# Altium schematic symbol library kmilo17pet-TI_MSP430.SchLib: 1463 symbols (part 71 of 130)
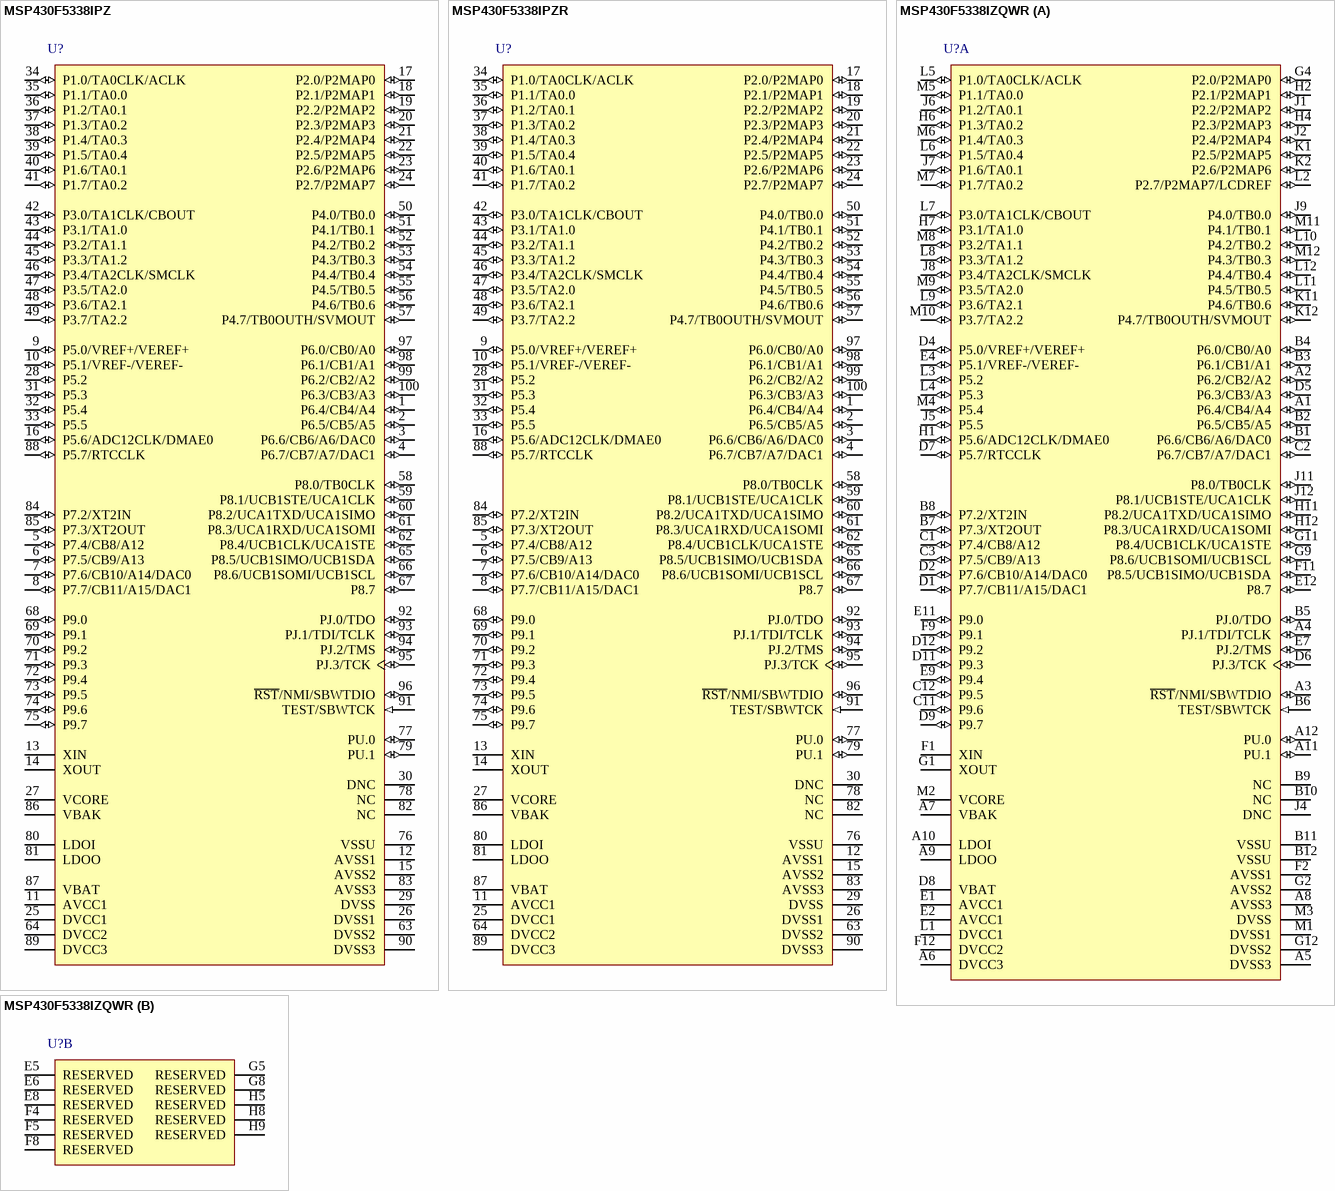
[diagram p271: symbols MSP430F5338IPZ to MSP430F5338IZQWR]

## MSP430F5338IZQWR
designator U?
20 MHz Mixed Signal Microcontroller with 256 KB Flash, 18432 B SRAM and 74 GPIOs, -40 to 85 degC, 113-pin BGA (ZQW), Green (RoHS & no Sb/Br); Manufacturer: Texas Instruments; PartNumber: MSP430F5338IZQWR; ADC: 12-bit SAR; ADC Channels: 16; Brown Out Reset: Yes; DAC: 2; DMA: 3; Flash(KB): 256; Frequency(MHz): 20; GPIO: 74; Multiplier: 32x32; SRAM(B): 18432; SubFamily: 5 Series; Timers - 16-bit: 4; DatasheetVersion: SLAS721B; PackageVersion: 4204599-3/D; PackageReference: ZQW113; PackageDescription: 113-Pin Plastic Ball Grid Array Package, Body 7 x 7 mm, Pitch 0.5 mm; Supplier 1: Digi-Key; Supplier Part Number 1: 296-29819-2-ND; Supplier 2: Digi-Key; Supplier Part Number 2: 296-29819-1-ND; Supplier 3: Digi-Key; Supplier Part Number 3: 296-29819-6-ND; Supplier 4: Newark; Supplier Part Number 4: 76T6231; Supplier 5: Mouser; Supplier Part Number 5: 595-MSP430F5338IPZR; Comparators: Yes; Eco-Plan: Green (RoHS & no Sb/Br); Real-Time Clock: Yes; SVS: Yes; Temp Sensor: Yes; USCI_A (UART/LIN/IrDA/SPI): 2; USCI_B (I2C & SPI): 2; Watchdog: Yes; Mounting Technology: Surface Mount; Code_JEDEC: MO-225; ComponentLink1Description: Manufacturer URL; ComponentLink1URL: http://www.ti.com/; ComponentLink2Description: Datasheet; ComponentLink2URL: http://www.ti.com/general/docs/lit/getliterature.tsp?genericPartNumber=MSP430F5338&fileType=pdf; ComponentLink3Description: Package Specification; ComponentLink3URL: http://www.ti.com/lit/ml/mpbg674/mpbg674.pdf
footprint TI-ZQW113 (BGA, 113-Balls, Body 7x7mm, Pitch 0.5mm)
part A pins: A1 P6.4/CB4/A4 (io), A2 P6.2/CB2/A2 (io), A3 ~{RST}/NMI/SBWTDIO (io), A4 PJ.1/TDI/TCLK (io), A5 DVSS3 (power) "Digital ground supply", A6 DVCC3 (power) "Digital power supply", A7 VBAK "Capacitor for backup subsystem. Do not load this pin externally. For capacitor values, see CBAK in Recommended Operating Conditions.", A8 AVSS3 (power) "Analog ground supply", A9 LDOO (power) "LDO output", A10 LDOI (power) "LDO input", A11 PU.1 (io) "General-purpose digital I/O - controlled by PU control register", A12 PU.0 (io) "General-purpose digital I/O - controlled by PU control register", B1 P6.6/CB6/A6/DAC0 (io), B2 P6.5/CB5/A5 (io), B3 P6.1/CB1/A1 (io), B4 P6.0/CB0/A0 (io), B5 PJ.0/TDO (io), B6 TEST/SBWTCK (in), B7 P7.3/XT2OUT (io), B8 P7.2/XT2IN (io), B9 NC "No connect.", B10 NC "No connect.", B11 VSSU (power) "PU ground supply", B12 VSSU (power) "PU ground supply", C1 P7.4/CB8/A12 (io), C2 P6.7/CB7/A7/DAC1 (io), C3 P7.5/CB9/A13 (io), C11 P9.6 (io) "General-purpose digital I/O", C12 P9.5 (io) "General-purpose digital I/O", D1 P7.7/CB11/A15/DAC1 (io), D2 P7.6/CB10/A14/DAC0 (io), D4 P5.0/VREF+/VEREF+ (io), D5 P6.3/CB3/A3 (io), D6 PJ.3/TCK (io), D7 P5.7/RTCCLK (io), D8 VBAT (power) "Backup or secondary supply voltage. If backup voltage is not supplied, connect to DVCC externally.", D9 P9.7 (io) "General-purpose digital I/O", D11 P9.3 (io) "General-purpose digital I/O", D12 P9.2 (io) "General-purpose digital I/O", E1 AVCC1 (power) "Analog power supply", E2 AVCC1 (power) "Analog power supply", E4 P5.1/VREF-/VEREF- (io), E7 PJ.2/TMS (io), E9 P9.4 (io) "General-purpose digital I/O", E11 P9.0 (io) "General-purpose digital I/O", E12 P8.7 (io) "General-purpose digital I/O", F1 XIN "Input terminal for crystal oscillator XT1", F2 AVSS1 (power) "Analog ground supply", F9 P9.1 (io) "General-purpose digital I/O", F11 P8.5/UCB1SIMO/UCB1SDA (io), F12 DVCC2 (power) "Digital power supply", G1 XOUT "Output terminal of crystal oscillator XT1", G2 AVSS2 (power) "Analog ground supply", G4 P2.0/P2MAP0 (io), G9 P8.6/UCB1SOMI/UCB1SCL (io), G11 P8.4/UCB1CLK/UCA1STE (io), G12 DVSS2 (power) "Digital ground supply", H1 P5.6/ADC12CLK/DMAE0 (io), H2 P2.1/P2MAP1 (io), H4 P2.3/P2MAP3 (io), H6 P1.3/TA0.2 (io), H7 P3.1/TA1.0 (io), H11 P8.2/UCA1TXD/UCA1SIMO (io), H12 P8.3/UCA1RXD/UCA1SOMI (io), J1 P2.2/P2MAP2 (io), J2 P2.4/P2MAP4 (io), J4 DNC "Do not connect. It is strongly recommended to leave this terminal open.", J5 P5.5 (io) "General-purpose digital I/O", J6 P1.2/TA0.1 (io), J7 P1.6/TA0.1 (io), J8 P3.4/TA2CLK/SMCLK (io), J9 P4.0/TB0.0 (io), J11 P8.0/TB0CLK (io), J12 P8.1/UCB1STE/UCA1CLK (io), K1 P2.5/P2MAP5 (io), K2 P2.6/P2MAP6 (io), K11 P4.6/TB0.6 (io), K12 P4.7/TB0OUTH/SVMOUT (io), L1 DVCC1 (power) "Digital power supply", L2 P2.7/P2MAP7/LCDREF (io), L3 P5.2 (io) "General-purpose digital I/O", L4 P5.3 (io) "General-purpose digital I/O", L5 P1.0/TA0CLK/ACLK (io), L6 P1.5/TA0.4 (io), L7 P3.0/TA1CLK/CBOUT (io), L8 P3.3/TA1.2 (io), L9 P3.6/TA2.1 (io), L10 P4.2/TB0.2 (io), L11 P4.5/TB0.5 (io), L12 P4.4/TB0.4 (io), M1 DVSS1 (power) "Digital ground supply", M2 VCORE "Regulated core power supply (internal use only, no external current loading)", M3 DVSS (power) "Digital ground supply", M4 P5.4 (io) "General-purpose digital I/O", M5 P1.1/TA0.0 (io), M6 P1.4/TA0.3 (io), M7 P1.7/TA0.2 (io), M8 P3.2/TA1.1 (io), M9 P3.5/TA2.0 (io), M10 P3.7/TA2.2 (io), M11 P4.1/TB0.1 (io), M12 P4.3/TB0.3 (io)
part B pins: E5 RESERVED "Reserved. It is recommended to connect to ground (DVSS, AVSS).", E6 RESERVED "Reserved. It is recommended to connect to ground (DVSS, AVSS).", E8 RESERVED "Reserved. It is recommended to connect to ground (DVSS, AVSS).", F4 RESERVED "Reserved. It is recommended to connect to ground (DVSS, AVSS).", F5 RESERVED "Reserved. It is recommended to connect to ground (DVSS, AVSS).", F8 RESERVED "Reserved. It is recommended to connect to ground (DVSS, AVSS).", G5 RESERVED "Reserved. It is recommended to connect to ground (DVSS, AVSS).", G8 RESERVED "Reserved. It is recommended to connect to ground (DVSS, AVSS).", H5 RESERVED "Reserved. It is recommended to connect to ground (DVSS, AVSS).", H8 RESERVED "Reserved. It is recommended to connect to ground (DVSS, AVSS).", H9 RESERVED "Reserved. It is recommended to connect to ground (DVSS, AVSS)."

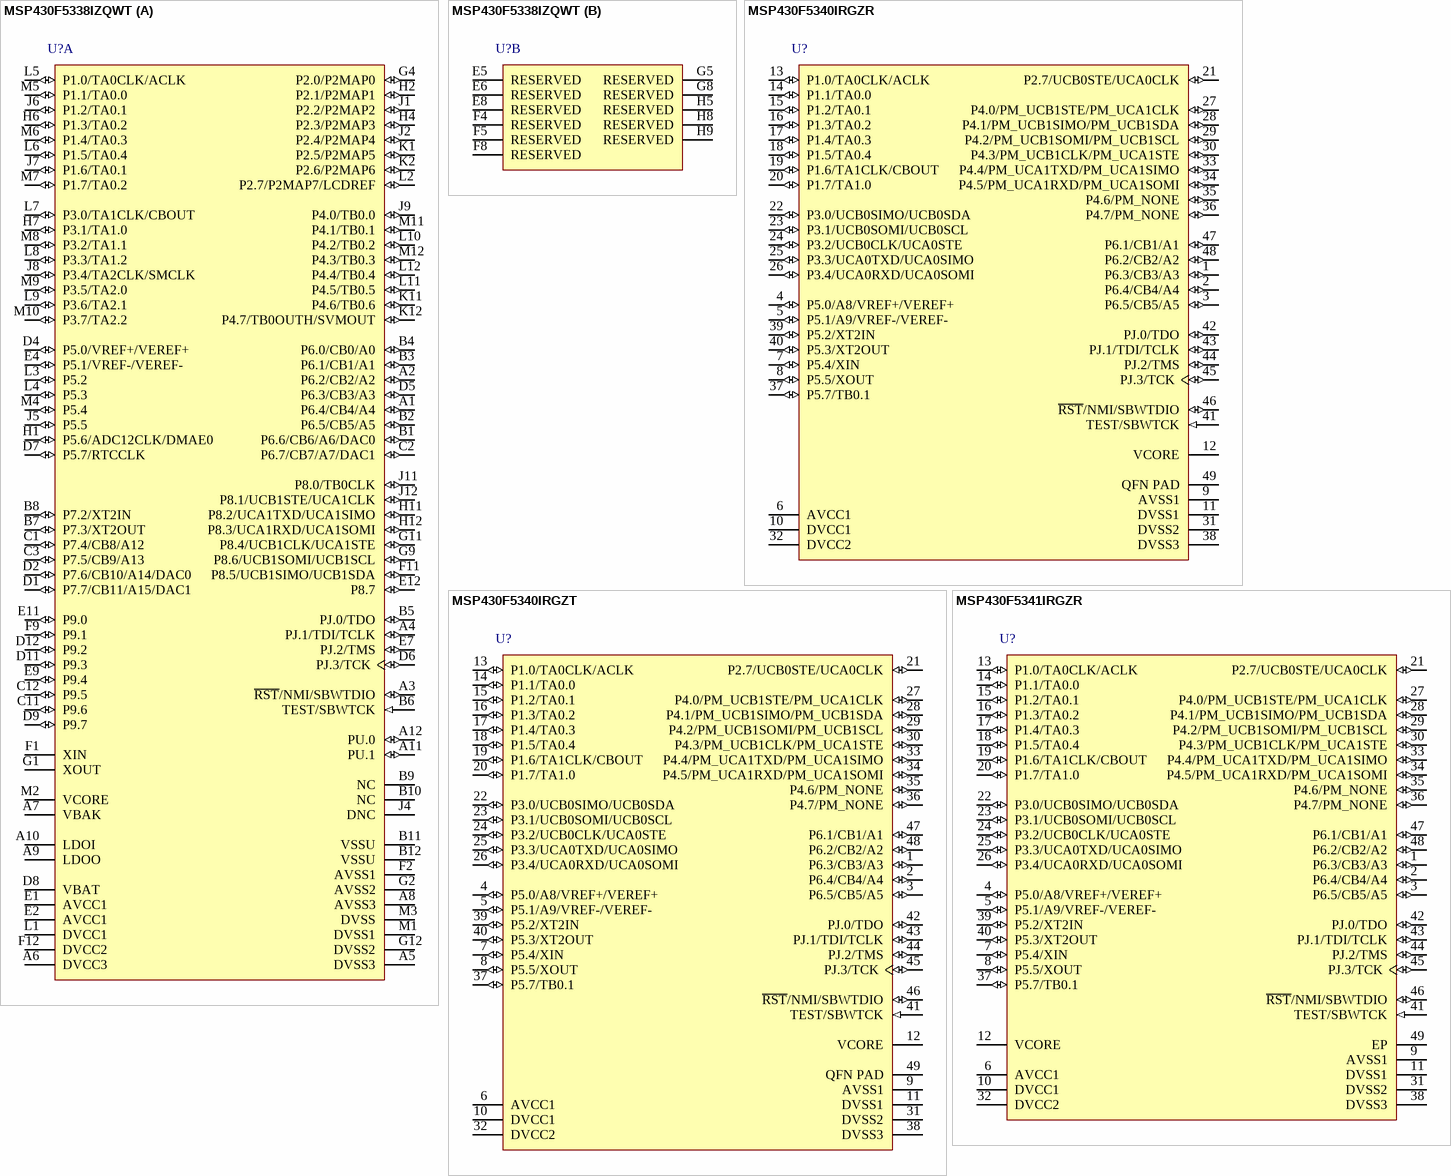
[diagram p107: symbols MSP430F5338IZQWT to MSP430F5341IRGZR]

## MSP430F5338IZQWT
designator U?
20 MHz Mixed Signal Microcontroller with 256 KB Flash, 18432 B SRAM and 74 GPIOs, -40 to 85 degC, 113-pin BGA (ZQW), Green (RoHS & no Sb/Br); Manufacturer: Texas Instruments; PartNumber: MSP430F5338IZQWT; ADC: 12-bit SAR; ADC Channels: 16; Brown Out Reset: Yes; DAC: 2; DMA: 3; Flash(KB): 256; Frequency(MHz): 20; GPIO: 74; Multiplier: 32x32; SRAM(B): 18432; SubFamily: 5 Series; Timers - 16-bit: 4; DatasheetVersion: SLAS721B; PackageVersion: 4204599-3/D; PackageReference: ZQW113; PackageDescription: 113-Pin Plastic Ball Grid Array Package, Body 7 x 7 mm, Pitch 0.5 mm; Supplier 1: Digi-Key; Supplier Part Number 1: 296-29820-2-ND; Supplier 2: Digi-Key; Supplier Part Number 2: 296-29820-1-ND; Supplier 3: Digi-Key; Supplier Part Number 3: 296-29820-6-ND; Supplier 4: Newark; Supplier Part Number 4: 76T6232; Supplier 5: Mouser; Supplier Part Number 5: 595-MSP430F5338IZQWR; Comparators: Yes; Eco-Plan: Green (RoHS & no Sb/Br); Real-Time Clock: Yes; SVS: Yes; Temp Sensor: Yes; USCI_A (UART/LIN/IrDA/SPI): 2; USCI_B (I2C & SPI): 2; Watchdog: Yes; Mounting Technology: Surface Mount; Code_JEDEC: MO-225; ComponentLink1Description: Manufacturer URL; ComponentLink1URL: http://www.ti.com/; ComponentLink2Description: Datasheet; ComponentLink2URL: http://www.ti.com/general/docs/lit/getliterature.tsp?genericPartNumber=MSP430F5338&fileType=pdf; ComponentLink3Description: Package Specification; ComponentLink3URL: http://www.ti.com/lit/ml/mpbg674/mpbg674.pdf
footprint TI-ZQW113 (BGA, 113-Balls, Body 7x7mm, Pitch 0.5mm)
part A pins: A1 P6.4/CB4/A4 (io), A2 P6.2/CB2/A2 (io), A3 ~{RST}/NMI/SBWTDIO (io), A4 PJ.1/TDI/TCLK (io), A5 DVSS3 (power) "Digital ground supply", A6 DVCC3 (power) "Digital power supply", A7 VBAK "Capacitor for backup subsystem. Do not load this pin externally. For capacitor values, see CBAK in Recommended Operating Conditions.", A8 AVSS3 (power) "Analog ground supply", A9 LDOO (power) "LDO output", A10 LDOI (power) "LDO input", A11 PU.1 (io) "General-purpose digital I/O - controlled by PU control register", A12 PU.0 (io) "General-purpose digital I/O - controlled by PU control register", B1 P6.6/CB6/A6/DAC0 (io), B2 P6.5/CB5/A5 (io), B3 P6.1/CB1/A1 (io), B4 P6.0/CB0/A0 (io), B5 PJ.0/TDO (io), B6 TEST/SBWTCK (in), B7 P7.3/XT2OUT (io), B8 P7.2/XT2IN (io), B9 NC "No connect.", B10 NC "No connect.", B11 VSSU (power) "PU ground supply", B12 VSSU (power) "PU ground supply", C1 P7.4/CB8/A12 (io), C2 P6.7/CB7/A7/DAC1 (io), C3 P7.5/CB9/A13 (io), C11 P9.6 (io) "General-purpose digital I/O", C12 P9.5 (io) "General-purpose digital I/O", D1 P7.7/CB11/A15/DAC1 (io), D2 P7.6/CB10/A14/DAC0 (io), D4 P5.0/VREF+/VEREF+ (io), D5 P6.3/CB3/A3 (io), D6 PJ.3/TCK (io), D7 P5.7/RTCCLK (io), D8 VBAT (power) "Backup or secondary supply voltage. If backup voltage is not supplied, connect to DVCC externally.", D9 P9.7 (io) "General-purpose digital I/O", D11 P9.3 (io) "General-purpose digital I/O", D12 P9.2 (io) "General-purpose digital I/O", E1 AVCC1 (power) "Analog power supply", E2 AVCC1 (power) "Analog power supply", E4 P5.1/VREF-/VEREF- (io), E7 PJ.2/TMS (io), E9 P9.4 (io) "General-purpose digital I/O", E11 P9.0 (io) "General-purpose digital I/O", E12 P8.7 (io) "General-purpose digital I/O", F1 XIN "Input terminal for crystal oscillator XT1", F2 AVSS1 (power) "Analog ground supply", F9 P9.1 (io) "General-purpose digital I/O", F11 P8.5/UCB1SIMO/UCB1SDA (io), F12 DVCC2 (power) "Digital power supply", G1 XOUT "Output terminal of crystal oscillator XT1", G2 AVSS2 (power) "Analog ground supply", G4 P2.0/P2MAP0 (io), G9 P8.6/UCB1SOMI/UCB1SCL (io), G11 P8.4/UCB1CLK/UCA1STE (io), G12 DVSS2 (power) "Digital ground supply", H1 P5.6/ADC12CLK/DMAE0 (io), H2 P2.1/P2MAP1 (io), H4 P2.3/P2MAP3 (io), H6 P1.3/TA0.2 (io), H7 P3.1/TA1.0 (io), H11 P8.2/UCA1TXD/UCA1SIMO (io), H12 P8.3/UCA1RXD/UCA1SOMI (io), J1 P2.2/P2MAP2 (io), J2 P2.4/P2MAP4 (io), J4 DNC "Do not connect. It is strongly recommended to leave this terminal open.", J5 P5.5 (io) "General-purpose digital I/O", J6 P1.2/TA0.1 (io), J7 P1.6/TA0.1 (io), J8 P3.4/TA2CLK/SMCLK (io), J9 P4.0/TB0.0 (io), J11 P8.0/TB0CLK (io), J12 P8.1/UCB1STE/UCA1CLK (io), K1 P2.5/P2MAP5 (io), K2 P2.6/P2MAP6 (io), K11 P4.6/TB0.6 (io), K12 P4.7/TB0OUTH/SVMOUT (io), L1 DVCC1 (power) "Digital power supply", L2 P2.7/P2MAP7/LCDREF (io), L3 P5.2 (io) "General-purpose digital I/O", L4 P5.3 (io) "General-purpose digital I/O", L5 P1.0/TA0CLK/ACLK (io), L6 P1.5/TA0.4 (io), L7 P3.0/TA1CLK/CBOUT (io), L8 P3.3/TA1.2 (io), L9 P3.6/TA2.1 (io), L10 P4.2/TB0.2 (io), L11 P4.5/TB0.5 (io), L12 P4.4/TB0.4 (io), M1 DVSS1 (power) "Digital ground supply", M2 VCORE "Regulated core power supply (internal use only, no external current loading)", M3 DVSS (power) "Digital ground supply", M4 P5.4 (io) "General-purpose digital I/O", M5 P1.1/TA0.0 (io), M6 P1.4/TA0.3 (io), M7 P1.7/TA0.2 (io), M8 P3.2/TA1.1 (io), M9 P3.5/TA2.0 (io), M10 P3.7/TA2.2 (io), M11 P4.1/TB0.1 (io), M12 P4.3/TB0.3 (io)
part B pins: E5 RESERVED "Reserved. It is recommended to connect to ground (DVSS, AVSS).", E6 RESERVED "Reserved. It is recommended to connect to ground (DVSS, AVSS).", E8 RESERVED "Reserved. It is recommended to connect to ground (DVSS, AVSS).", F4 RESERVED "Reserved. It is recommended to connect to ground (DVSS, AVSS).", F5 RESERVED "Reserved. It is recommended to connect to ground (DVSS, AVSS).", F8 RESERVED "Reserved. It is recommended to connect to ground (DVSS, AVSS).", G5 RESERVED "Reserved. It is recommended to connect to ground (DVSS, AVSS).", G8 RESERVED "Reserved. It is recommended to connect to ground (DVSS, AVSS).", H5 RESERVED "Reserved. It is recommended to connect to ground (DVSS, AVSS).", H8 RESERVED "Reserved. It is recommended to connect to ground (DVSS, AVSS).", H9 RESERVED "Reserved. It is recommended to connect to ground (DVSS, AVSS)."

## MSP430F5340IRGZR
designator U?
25 MHz Mixed Signal Microcontroller with 64 KB Flash, 6144 B SRAM and 31 GPIOs, -40 to 85 degC, 48-pin QFN (RGZ), Green (RoHS & no Sb/Br); Manufacturer: Texas Instruments; PartNumber: MSP430F5340IRGZR; ADC: 12-bit SAR; ADC Channels: 9; Brown Out Reset: Yes; DMA: 3; Flash(KB): 64; Frequency(MHz): 25; GPIO: 31; Multiplier: 32x32; SRAM(B): 6144; SubFamily: 5 Series; Timers - 16-bit: 4; USCI_A (UART/LIN/IrDA/SPI): 2; DatasheetVersion: SLAS706C; PackageVersion: 4204101/F; PackageReference: RGZ48-5150X5150TP; PackageDescription: 48-Pin Plastic Flat Pack, Body 7 x 7 mm, Pitch 0.5 mm; Supplier 1: Mouser; Supplier Part Number 1: N/A; Comparators: Yes; Eco-Plan: Green (RoHS & no Sb/Br); Real-Time Clock: Yes; SVS: Yes; Temp Sensor: Yes; USCI_B (I2C & SPI): 2; Watchdog: Yes; Mounting Technology: Surface Mount; Code_JEDEC: MO-220; ComponentLink1Description: Manufacturer URL; ComponentLink1URL: http://www.ti.com/; ComponentLink2Description: Datasheet; ComponentLink2URL: http://www.ti.com/general/docs/lit/getliterature.tsp?genericPartNumber=MSP430F5340&fileType=pdf; ComponentLink3Description: Package Specification; ComponentLink3URL: http://www.ti.com/lit/ml/mpqf123e/mpqf123e.pdf
footprint TI-RGZ48-5150X5150TP_N (QFN, 48-Leads, Body 7x7mm, Pitch 0.5mm, Thermal Pad 5.15X5.15mm, IPC Medium Density)
pins: 1 P6.3/CB3/A3 (io), 2 P6.4/CB4/A4 (io), 3 P6.5/CB5/A5 (io), 4 P5.0/A8/VREF+/VEREF+ (io), 5 P5.1/A9/VREF-/VEREF- (io), 6 AVCC1 (power) "Analog power supply", 7 P5.4/XIN (io), 8 P5.5/XOUT (io), 9 AVSS1 (power) "Analog ground supply", 10 DVCC1 (power) "Digital power supply", 11 DVSS1 (power) "Digital ground supply", 12 VCORE "Regulated core power supply output (internal usage only, no external current loading)", 13 P1.0/TA0CLK/ACLK (io), 14 P1.1/TA0.0 (io), 15 P1.2/TA0.1 (io), 16 P1.3/TA0.2 (io), 17 P1.4/TA0.3 (io), 18 P1.5/TA0.4 (io), 19 P1.6/TA1CLK/CBOUT (io), 20 P1.7/TA1.0 (io), 21 P2.7/UCB0STE/UCA0CLK (io), 22 P3.0/UCB0SIMO/UCB0SDA (io), 23 P3.1/UCB0SOMI/UCB0SCL (io), 24 P3.2/UCB0CLK/UCA0STE (io), 25 P3.3/UCA0TXD/UCA0SIMO (io), 26 P3.4/UCA0RXD/UCA0SOMI (io), 27 P4.0/PM_UCB1STE/PM_UCA1CLK (io), 28 P4.1/PM_UCB1SIMO/PM_UCB1SDA (io), 29 P4.2/PM_UCB1SOMI/PM_UCB1SCL (io), 30 P4.3/PM_UCB1CLK/PM_UCA1STE (io), 31 DVSS2 (power) "Digital ground supply", 32 DVCC2 (power) "Digital power supply", 33 P4.4/PM_UCA1TXD/PM_UCA1SIMO (io), 34 P4.5/PM_UCA1RXD/PM_UCA1SOMI (io), 35 P4.6/PM_NONE (io), 36 P4.7/PM_NONE (io), 37 P5.7/TB0.1 (io), 38 DVSS3 (power) "Digital ground supply", 39 P5.2/XT2IN (io), 40 P5.3/XT2OUT (io), 41 TEST/SBWTCK (in), 42 PJ.0/TDO (io), 43 PJ.1/TDI/TCLK (io), 44 PJ.2/TMS (io), 45 PJ.3/TCK (io), 46 ~{RST}/NMI/SBWTDIO (io), 47 P6.1/CB1/A1 (io), 48 P6.2/CB2/A2 (io), 49 QFN PAD (power) "QFN package pad. Connection to VSS is recommended."

## MSP430F5340IRGZT
designator U?
25 MHz Mixed Signal Microcontroller with 64 KB Flash, 6144 B SRAM and 31 GPIOs, -40 to 85 degC, 48-pin QFN (RGZ), Green (RoHS & no Sb/Br); Manufacturer: Texas Instruments; PartNumber: MSP430F5340IRGZT; ADC: 12-bit SAR; ADC Channels: 9; Brown Out Reset: Yes; DMA: 3; Flash(KB): 64; Frequency(MHz): 25; GPIO: 31; Multiplier: 32x32; SRAM(B): 6144; SubFamily: 5 Series; Timers - 16-bit: 4; USCI_A (UART/LIN/IrDA/SPI): 2; DatasheetVersion: SLAS706C; PackageVersion: 4204101/F; PackageReference: RGZ48-5150X5150TP; PackageDescription: 48-Pin Plastic Flat Pack, Body 7 x 7 mm, Pitch 0.5 mm; Supplier 1: Digi-Key; Supplier Part Number 1: 296-29580-2-ND; Supplier 2: Digi-Key; Supplier Part Number 2: 296-29580-1-ND; Supplier 3: Digi-Key; Supplier Part Number 3: 296-29580-6-ND; Supplier 4: Newark; Supplier Part Number 4: 64T3689; Supplier 5: Mouser; Supplier Part Number 5: 595-MSP430F5340IRGZR; Comparators: Yes; Eco-Plan: Green (RoHS & no Sb/Br); Real-Time Clock: Yes; SVS: Yes; Temp Sensor: Yes; USCI_B (I2C & SPI): 2; Watchdog: Yes; Mounting Technology: Surface Mount; Code_JEDEC: MO-220; ComponentLink1Description: Manufacturer URL; ComponentLink1URL: http://www.ti.com/; ComponentLink2Description: Datasheet; ComponentLink2URL: http://www.ti.com/general/docs/lit/getliterature.tsp?genericPartNumber=MSP430F5340&fileType=pdf; ComponentLink3Description: Package Specification; ComponentLink3URL: http://www.ti.com/lit/ml/mpqf123e/mpqf123e.pdf
footprint TI-RGZ48-5150X5150TP_N (QFN, 48-Leads, Body 7x7mm, Pitch 0.5mm, Thermal Pad 5.15X5.15mm, IPC Medium Density)
pins: 1 P6.3/CB3/A3 (io), 2 P6.4/CB4/A4 (io), 3 P6.5/CB5/A5 (io), 4 P5.0/A8/VREF+/VEREF+ (io), 5 P5.1/A9/VREF-/VEREF- (io), 6 AVCC1 (power) "Analog power supply", 7 P5.4/XIN (io), 8 P5.5/XOUT (io), 9 AVSS1 (power) "Analog ground supply", 10 DVCC1 (power) "Digital power supply", 11 DVSS1 (power) "Digital ground supply", 12 VCORE "Regulated core power supply output (internal usage only, no external current loading)", 13 P1.0/TA0CLK/ACLK (io), 14 P1.1/TA0.0 (io), 15 P1.2/TA0.1 (io), 16 P1.3/TA0.2 (io), 17 P1.4/TA0.3 (io), 18 P1.5/TA0.4 (io), 19 P1.6/TA1CLK/CBOUT (io), 20 P1.7/TA1.0 (io), 21 P2.7/UCB0STE/UCA0CLK (io), 22 P3.0/UCB0SIMO/UCB0SDA (io), 23 P3.1/UCB0SOMI/UCB0SCL (io), 24 P3.2/UCB0CLK/UCA0STE (io), 25 P3.3/UCA0TXD/UCA0SIMO (io), 26 P3.4/UCA0RXD/UCA0SOMI (io), 27 P4.0/PM_UCB1STE/PM_UCA1CLK (io), 28 P4.1/PM_UCB1SIMO/PM_UCB1SDA (io), 29 P4.2/PM_UCB1SOMI/PM_UCB1SCL (io), 30 P4.3/PM_UCB1CLK/PM_UCA1STE (io), 31 DVSS2 (power) "Digital ground supply", 32 DVCC2 (power) "Digital power supply", 33 P4.4/PM_UCA1TXD/PM_UCA1SIMO (io), 34 P4.5/PM_UCA1RXD/PM_UCA1SOMI (io), 35 P4.6/PM_NONE (io), 36 P4.7/PM_NONE (io), 37 P5.7/TB0.1 (io), 38 DVSS3 (power) "Digital ground supply", 39 P5.2/XT2IN (io), 40 P5.3/XT2OUT (io), 41 TEST/SBWTCK (in), 42 PJ.0/TDO (io), 43 PJ.1/TDI/TCLK (io), 44 PJ.2/TMS (io), 45 PJ.3/TCK (io), 46 ~{RST}/NMI/SBWTDIO (io), 47 P6.1/CB1/A1 (io), 48 P6.2/CB2/A2 (io), 49 QFN PAD (power) "QFN package pad. Connection to VSS is recommended."

## MSP430F5341IRGZR
designator U?
25 MHz Mixed Signal Microcontroller with 96 KB Flash, 8192 B SRAM and 31 GPIOs, -40 to 85 degC, 64-pin BGA (YFF), Green (RoHS & no Sb/Br); Manufacturer: Texas Instruments; PartNumber: MSP430F5341IRGZR; ADC: 12-bit SAR; ADC Channels: 9; Brown Out Reset: Yes; DMA: 3; Flash(KB): 96; Frequency(MHz): 25; GPIO: 31; Multiplier: 32x32; SRAM(B): 8192; SubFamily: 5 Series; Timers - 16-bit: 4; USCI_A (UART/LIN/IrDA/SPI): 2; DatasheetVersion: SLAS706C; PackageVersion: 4204101/F; PackageReference: RGZ48-5150X5150TP; PackageDescription: 48-Pin Plastic Flat Pack, Body 7 x 7 mm, Pitch 0.5 mm; Supplier 1: Digi-Key; Supplier Part Number 1: MSP430F5340IRGZT-ND; Supplier 2: Mouser; Supplier Part Number 2: 595-MSP430F5340IRGZT; Comparators: Yes; Eco-Plan: Green (RoHS & no Sb/Br); Real-Time Clock: Yes; SVS: Yes; Temp Sensor: Yes; USCI_B (I2C & SPI): 2; Watchdog: Yes; Mounting Technology: Surface Mount; Code_JEDEC: MO-220; ComponentLink1Description: Manufacturer URL; ComponentLink1URL: http://www.ti.com/; ComponentLink2Description: Datasheet; ComponentLink2URL: http://www.ti.com/general/docs/lit/getliterature.tsp?genericPartNumber=MSP430F5341&fileType=pdf; ComponentLink3Description: Package Specification; ComponentLink3URL: http://www.ti.com/lit/ml/mpqf123e/mpqf123e.pdf
footprint TI-RGZ48-5150X5150TP_N (QFN, 48-Leads, Body 7x7mm, Pitch 0.5mm, Thermal Pad 5.15X5.15mm, IPC Medium Density)
pins: 1 P6.3/CB3/A3 (io), 2 P6.4/CB4/A4 (io), 3 P6.5/CB5/A5 (io), 4 P5.0/A8/VREF+/VEREF+ (io), 5 P5.1/A9/VREF-/VEREF- (io), 6 AVCC1 (power) "Analog power supply", 7 P5.4/XIN (io), 8 P5.5/XOUT (io), 9 AVSS1 (power) "Analog ground supply", 10 DVCC1 (power) "Digital power supply", 11 DVSS1 (power) "Digital ground supply", 12 VCORE "Regulated core power supply output (internal usage only, no external current loading)", 13 P1.0/TA0CLK/ACLK (io), 14 P1.1/TA0.0 (io), 15 P1.2/TA0.1 (io), 16 P1.3/TA0.2 (io), 17 P1.4/TA0.3 (io), 18 P1.5/TA0.4 (io), 19 P1.6/TA1CLK/CBOUT (io), 20 P1.7/TA1.0 (io), 21 P2.7/UCB0STE/UCA0CLK (io), 22 P3.0/UCB0SIMO/UCB0SDA (io), 23 P3.1/UCB0SOMI/UCB0SCL (io), 24 P3.2/UCB0CLK/UCA0STE (io), 25 P3.3/UCA0TXD/UCA0SIMO (io), 26 P3.4/UCA0RXD/UCA0SOMI (io), 27 P4.0/PM_UCB1STE/PM_UCA1CLK (io), 28 P4.1/PM_UCB1SIMO/PM_UCB1SDA (io), 29 P4.2/PM_UCB1SOMI/PM_UCB1SCL (io), 30 P4.3/PM_UCB1CLK/PM_UCA1STE (io), 31 DVSS2 (power) "Digital ground supply", 32 DVCC2 (power) "Digital power supply", 33 P4.4/PM_UCA1TXD/PM_UCA1SIMO (io), 34 P4.5/PM_UCA1RXD/PM_UCA1SOMI (io), 35 P4.6/PM_NONE (io), 36 P4.7/PM_NONE (io), 37 P5.7/TB0.1 (io), 38 DVSS3 (power) "Digital ground supply", 39 P5.2/XT2IN (io), 40 P5.3/XT2OUT (io), 41 TEST/SBWTCK (in), 42 PJ.0/TDO (io), 43 PJ.1/TDI/TCLK (io), 44 PJ.2/TMS (io), 45 PJ.3/TCK (io), 46 ~{RST}/NMI/SBWTDIO (io), 47 P6.1/CB1/A1 (io), 48 P6.2/CB2/A2 (io), 49 EP (power) "QFN package pad. Connection to VSS is recommended."

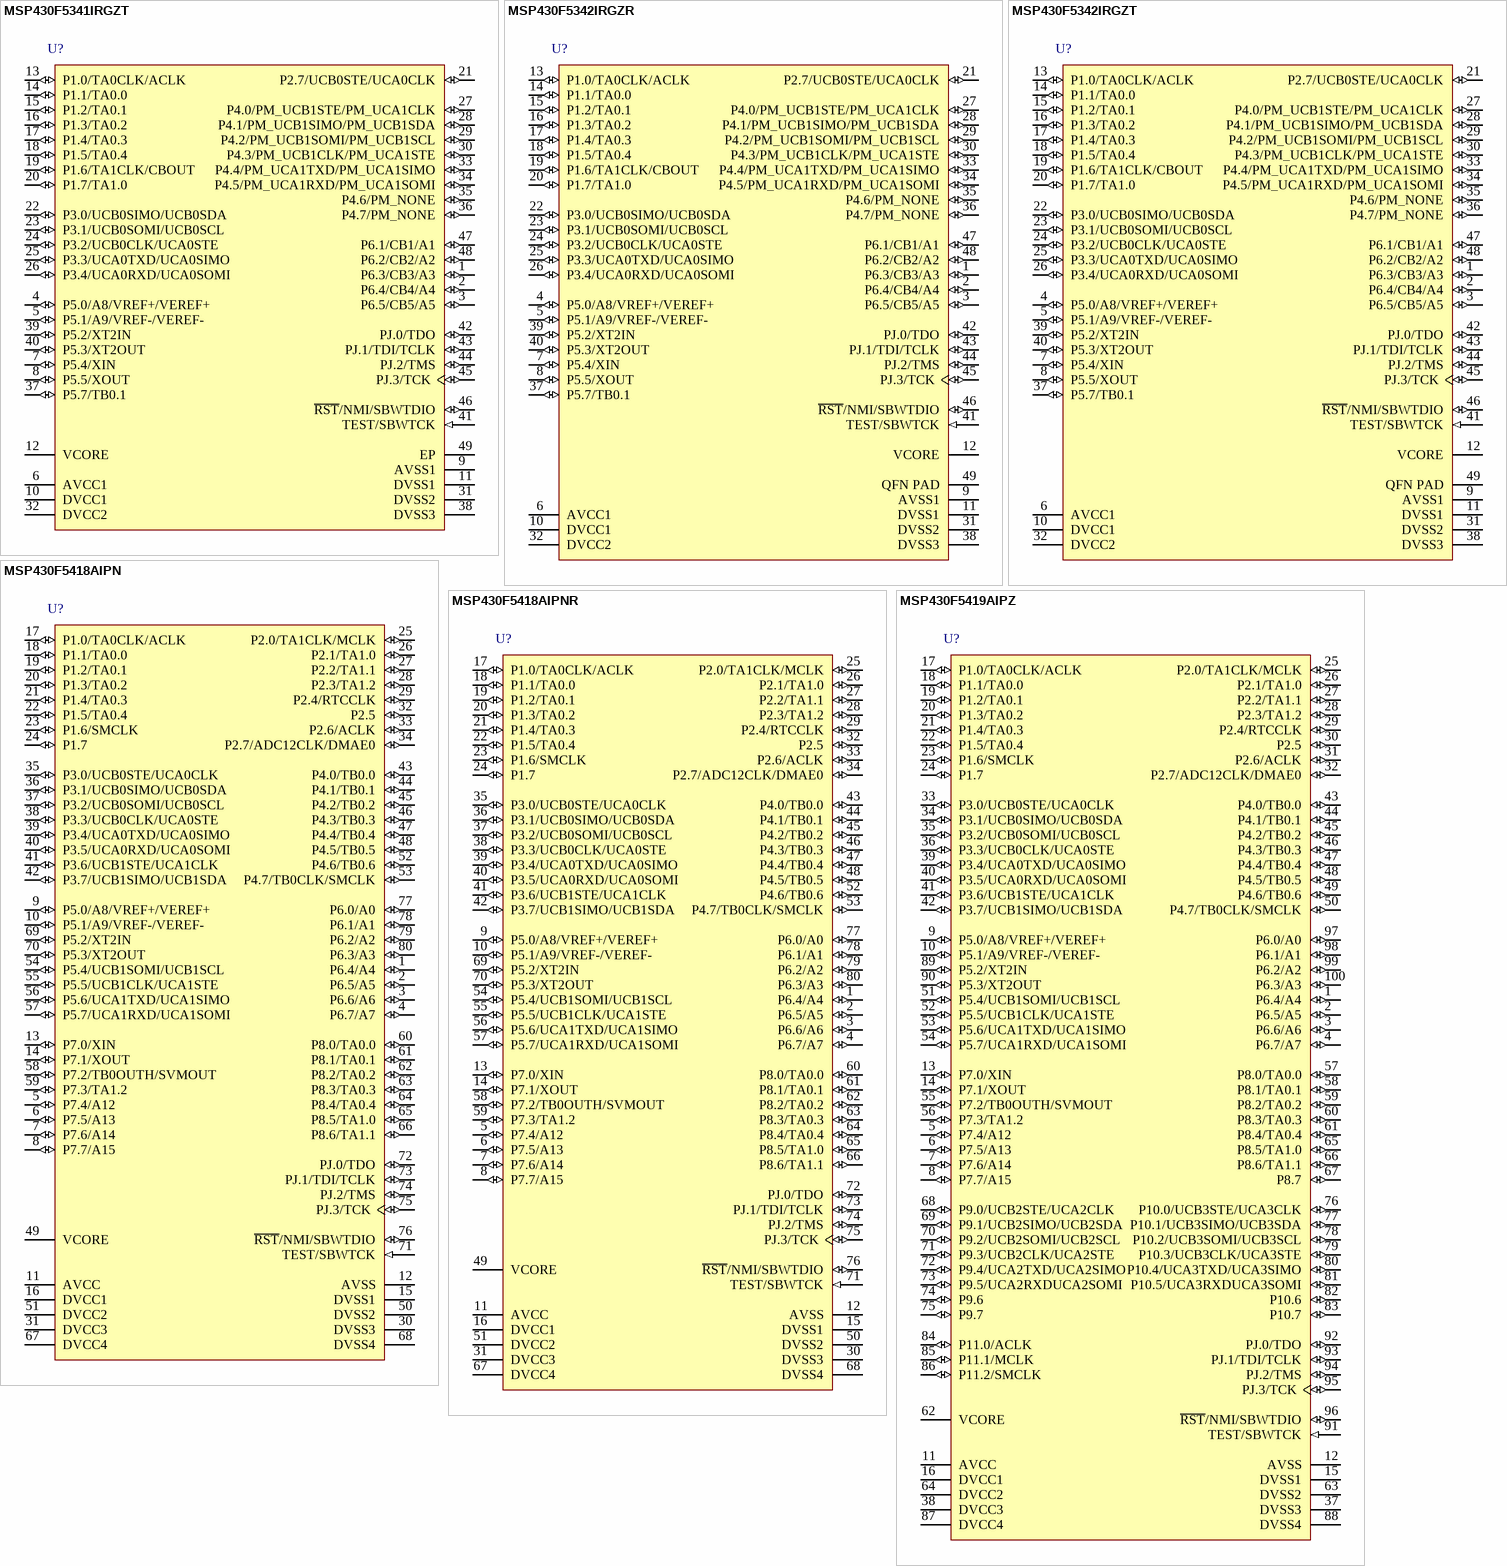
[diagram p108: symbols MSP430F5341IRGZT to MSP430F5419AIPZ]

## MSP430F5341IRGZT
designator U?
25 MHz Mixed Signal Microcontroller with 96 KB Flash, 8192 B SRAM and 31 GPIOs, -40 to 85 degC, 48-pin QFN (RGZ), Green (RoHS & no Sb/Br); Manufacturer: Texas Instruments; PartNumber: MSP430F5341IRGZT; ADC: 12-bit SAR; ADC Channels: 9; Brown Out Reset: Yes; DMA: 3; Flash(KB): 96; Frequency(MHz): 25; GPIO: 31; Multiplier: 32x32; SRAM(B): 8192; SubFamily: 5 Series; Timers - 16-bit: 4; USCI_A (UART/LIN/IrDA/SPI): 2; DatasheetVersion: SLAS706C; PackageVersion: 4204101/F; PackageReference: RGZ48-5150X5150TP; PackageDescription: 48-Pin Plastic Flat Pack, Body 7 x 7 mm, Pitch 0.5 mm; Supplier 1: Digi-Key; Supplier Part Number 1: 296-29581-2-ND; Supplier 2: Digi-Key; Supplier Part Number 2: 296-29581-1-ND; Supplier 3: Digi-Key; Supplier Part Number 3: 296-29581-6-ND; Supplier 4: Mouser; Supplier Part Number 4: 595-MSP430F5341IRGZR; Comparators: Yes; Eco-Plan: Green (RoHS & no Sb/Br); Real-Time Clock: Yes; SVS: Yes; Temp Sensor: Yes; USCI_B (I2C & SPI): 2; Watchdog: Yes; Mounting Technology: Surface Mount; Code_JEDEC: MO-220; ComponentLink1Description: Manufacturer URL; ComponentLink1URL: http://www.ti.com/; ComponentLink2Description: Datasheet; ComponentLink2URL: http://www.ti.com/general/docs/lit/getliterature.tsp?genericPartNumber=MSP430F5341&fileType=pdf; ComponentLink3Description: Package Specification; ComponentLink3URL: http://www.ti.com/lit/ml/mpqf123e/mpqf123e.pdf
footprint TI-RGZ48-5150X5150TP_N (QFN, 48-Leads, Body 7x7mm, Pitch 0.5mm, Thermal Pad 5.15X5.15mm, IPC Medium Density)
pins: 1 P6.3/CB3/A3 (io), 2 P6.4/CB4/A4 (io), 3 P6.5/CB5/A5 (io), 4 P5.0/A8/VREF+/VEREF+ (io), 5 P5.1/A9/VREF-/VEREF- (io), 6 AVCC1 (power) "Analog power supply", 7 P5.4/XIN (io), 8 P5.5/XOUT (io), 9 AVSS1 (power) "Analog ground supply", 10 DVCC1 (power) "Digital power supply", 11 DVSS1 (power) "Digital ground supply", 12 VCORE "Regulated core power supply output (internal usage only, no external current loading)", 13 P1.0/TA0CLK/ACLK (io), 14 P1.1/TA0.0 (io), 15 P1.2/TA0.1 (io), 16 P1.3/TA0.2 (io), 17 P1.4/TA0.3 (io), 18 P1.5/TA0.4 (io), 19 P1.6/TA1CLK/CBOUT (io), 20 P1.7/TA1.0 (io), 21 P2.7/UCB0STE/UCA0CLK (io), 22 P3.0/UCB0SIMO/UCB0SDA (io), 23 P3.1/UCB0SOMI/UCB0SCL (io), 24 P3.2/UCB0CLK/UCA0STE (io), 25 P3.3/UCA0TXD/UCA0SIMO (io), 26 P3.4/UCA0RXD/UCA0SOMI (io), 27 P4.0/PM_UCB1STE/PM_UCA1CLK (io), 28 P4.1/PM_UCB1SIMO/PM_UCB1SDA (io), 29 P4.2/PM_UCB1SOMI/PM_UCB1SCL (io), 30 P4.3/PM_UCB1CLK/PM_UCA1STE (io), 31 DVSS2 (power) "Digital ground supply", 32 DVCC2 (power) "Digital power supply", 33 P4.4/PM_UCA1TXD/PM_UCA1SIMO (io), 34 P4.5/PM_UCA1RXD/PM_UCA1SOMI (io), 35 P4.6/PM_NONE (io), 36 P4.7/PM_NONE (io), 37 P5.7/TB0.1 (io), 38 DVSS3 (power) "Digital ground supply", 39 P5.2/XT2IN (io), 40 P5.3/XT2OUT (io), 41 TEST/SBWTCK (in), 42 PJ.0/TDO (io), 43 PJ.1/TDI/TCLK (io), 44 PJ.2/TMS (io), 45 PJ.3/TCK (io), 46 ~{RST}/NMI/SBWTDIO (io), 47 P6.1/CB1/A1 (io), 48 P6.2/CB2/A2 (io), 49 EP (power) "QFN package pad. Connection to VSS is recommended."

## MSP430F5342IRGZR
designator U?
25 MHz Mixed Signal Microcontroller with 128 KB Flash, 10240 B SRAM and 31 GPIOs, -40 to 85 degC, 48-pin QFN (RGZ), Green (RoHS & no Sb/Br); Manufacturer: Texas Instruments; PartNumber: MSP430F5342IRGZR; ADC: 12-bit SAR; ADC Channels: 9; Brown Out Reset: Yes; DMA: 3; Flash(KB): 128; Frequency(MHz): 25; GPIO: 31; Multiplier: 32x32; SRAM(B): 10240; SubFamily: 5 Series; Timers - 16-bit: 4; USCI_A (UART/LIN/IrDA/SPI): 2; DatasheetVersion: SLAS706C; PackageVersion: 4204101/F; PackageReference: RGZ48-5150X5150TP; PackageDescription: 48-Pin Plastic Flat Pack, Body 7 x 7 mm, Pitch 0.5 mm; Supplier 1: Digi-Key; Supplier Part Number 1: 296-30061-2-ND; Supplier 2: Digi-Key; Supplier Part Number 2: 296-30061-1-ND; Supplier 3: Digi-Key; Supplier Part Number 3: 296-30061-6-ND; Supplier 4: Farnell; Supplier Part Number 4: 2072182; Supplier 5: Newark; Supplier Part Number 5: 74T4611; Supplier 6: Mouser; Supplier Part Number 6: 595-MSP430F5341IRGZT; Comparators: Yes; Eco-Plan: Green (RoHS & no Sb/Br); Real-Time Clock: Yes; SVS: Yes; Temp Sensor: Yes; USCI_B (I2C & SPI): 2; Watchdog: Yes; Mounting Technology: Surface Mount; Code_JEDEC: MO-220; ComponentLink1Description: Manufacturer URL; ComponentLink1URL: http://www.ti.com/; ComponentLink2Description: Datasheet; ComponentLink2URL: http://www.ti.com/general/docs/lit/getliterature.tsp?genericPartNumber=MSP430F5342&fileType=pdf; ComponentLink3Description: Package Specification; ComponentLink3URL: http://www.ti.com/lit/ml/mpqf123e/mpqf123e.pdf
footprint TI-RGZ48-5150X5150TP_N (QFN, 48-Leads, Body 7x7mm, Pitch 0.5mm, Thermal Pad 5.15X5.15mm, IPC Medium Density)
pins: 1 P6.3/CB3/A3 (io), 2 P6.4/CB4/A4 (io), 3 P6.5/CB5/A5 (io), 4 P5.0/A8/VREF+/VEREF+ (io), 5 P5.1/A9/VREF-/VEREF- (io), 6 AVCC1 (power) "Analog power supply", 7 P5.4/XIN (io), 8 P5.5/XOUT (io), 9 AVSS1 (power) "Analog ground supply", 10 DVCC1 (power) "Digital power supply", 11 DVSS1 (power) "Digital ground supply", 12 VCORE "Regulated core power supply output (internal usage only, no external current loading)", 13 P1.0/TA0CLK/ACLK (io), 14 P1.1/TA0.0 (io), 15 P1.2/TA0.1 (io), 16 P1.3/TA0.2 (io), 17 P1.4/TA0.3 (io), 18 P1.5/TA0.4 (io), 19 P1.6/TA1CLK/CBOUT (io), 20 P1.7/TA1.0 (io), 21 P2.7/UCB0STE/UCA0CLK (io), 22 P3.0/UCB0SIMO/UCB0SDA (io), 23 P3.1/UCB0SOMI/UCB0SCL (io), 24 P3.2/UCB0CLK/UCA0STE (io), 25 P3.3/UCA0TXD/UCA0SIMO (io), 26 P3.4/UCA0RXD/UCA0SOMI (io), 27 P4.0/PM_UCB1STE/PM_UCA1CLK (io), 28 P4.1/PM_UCB1SIMO/PM_UCB1SDA (io), 29 P4.2/PM_UCB1SOMI/PM_UCB1SCL (io), 30 P4.3/PM_UCB1CLK/PM_UCA1STE (io), 31 DVSS2 (power) "Digital ground supply", 32 DVCC2 (power) "Digital power supply", 33 P4.4/PM_UCA1TXD/PM_UCA1SIMO (io), 34 P4.5/PM_UCA1RXD/PM_UCA1SOMI (io), 35 P4.6/PM_NONE (io), 36 P4.7/PM_NONE (io), 37 P5.7/TB0.1 (io), 38 DVSS3 (power) "Digital ground supply", 39 P5.2/XT2IN (io), 40 P5.3/XT2OUT (io), 41 TEST/SBWTCK (in), 42 PJ.0/TDO (io), 43 PJ.1/TDI/TCLK (io), 44 PJ.2/TMS (io), 45 PJ.3/TCK (io), 46 ~{RST}/NMI/SBWTDIO (io), 47 P6.1/CB1/A1 (io), 48 P6.2/CB2/A2 (io), 49 QFN PAD (power) "QFN package pad. Connection to VSS is recommended."

## MSP430F5342IRGZT
designator U?
25 MHz Mixed Signal Microcontroller with 128 KB Flash, 10240 B SRAM and 31 GPIOs, -40 to 85 degC, 48-pin QFN (RGZ), Green (RoHS & no Sb/Br); Manufacturer: Texas Instruments; PartNumber: MSP430F5342IRGZT; ADC: 12-bit SAR; ADC Channels: 9; Brown Out Reset: Yes; DMA: 3; Flash(KB): 128; Frequency(MHz): 25; GPIO: 31; Multiplier: 32x32; SRAM(B): 10240; SubFamily: 5 Series; Timers - 16-bit: 4; USCI_A (UART/LIN/IrDA/SPI): 2; DatasheetVersion: SLAS706C; PackageVersion: 4204101/F; PackageReference: RGZ48-5150X5150TP; PackageDescription: 48-Pin Plastic Flat Pack, Body 7 x 7 mm, Pitch 0.5 mm; Supplier 1: Digi-Key; Supplier Part Number 1: 296-29582-2-ND; Supplier 2: Digi-Key; Supplier Part Number 2: 296-29582-1-ND; Supplier 3: Digi-Key; Supplier Part Number 3: 296-29582-6-ND; Supplier 4: Farnell; Supplier Part Number 4: 2070272; Supplier 5: Newark; Supplier Part Number 5: 73T9351; Supplier 6: Newark; Supplier Part Number 6: 64T3690; Supplier 7: Mouser; Supplier Part Number 7: 595-MSP430F5342IRGZR; Comparators: Yes; Eco-Plan: Green (RoHS & no Sb/Br); Real-Time Clock: Yes; SVS: Yes; Temp Sensor: Yes; USCI_B (I2C & SPI): 2; Watchdog: Yes; Mounting Technology: Surface Mount; Code_JEDEC: MO-220; ComponentLink1Description: Manufacturer URL; ComponentLink1URL: http://www.ti.com/; ComponentLink2Description: Datasheet; ComponentLink2URL: http://www.ti.com/general/docs/lit/getliterature.tsp?genericPartNumber=MSP430F5342&fileType=pdf; ComponentLink3Description: Package Specification; ComponentLink3URL: http://www.ti.com/lit/ml/mpqf123e/mpqf123e.pdf
footprint TI-RGZ48-5150X5150TP_N (QFN, 48-Leads, Body 7x7mm, Pitch 0.5mm, Thermal Pad 5.15X5.15mm, IPC Medium Density)
pins: 1 P6.3/CB3/A3 (io), 2 P6.4/CB4/A4 (io), 3 P6.5/CB5/A5 (io), 4 P5.0/A8/VREF+/VEREF+ (io), 5 P5.1/A9/VREF-/VEREF- (io), 6 AVCC1 (power) "Analog power supply", 7 P5.4/XIN (io), 8 P5.5/XOUT (io), 9 AVSS1 (power) "Analog ground supply", 10 DVCC1 (power) "Digital power supply", 11 DVSS1 (power) "Digital ground supply", 12 VCORE "Regulated core power supply output (internal usage only, no external current loading)", 13 P1.0/TA0CLK/ACLK (io), 14 P1.1/TA0.0 (io), 15 P1.2/TA0.1 (io), 16 P1.3/TA0.2 (io), 17 P1.4/TA0.3 (io), 18 P1.5/TA0.4 (io), 19 P1.6/TA1CLK/CBOUT (io), 20 P1.7/TA1.0 (io), 21 P2.7/UCB0STE/UCA0CLK (io), 22 P3.0/UCB0SIMO/UCB0SDA (io), 23 P3.1/UCB0SOMI/UCB0SCL (io), 24 P3.2/UCB0CLK/UCA0STE (io), 25 P3.3/UCA0TXD/UCA0SIMO (io), 26 P3.4/UCA0RXD/UCA0SOMI (io), 27 P4.0/PM_UCB1STE/PM_UCA1CLK (io), 28 P4.1/PM_UCB1SIMO/PM_UCB1SDA (io), 29 P4.2/PM_UCB1SOMI/PM_UCB1SCL (io), 30 P4.3/PM_UCB1CLK/PM_UCA1STE (io), 31 DVSS2 (power) "Digital ground supply", 32 DVCC2 (power) "Digital power supply", 33 P4.4/PM_UCA1TXD/PM_UCA1SIMO (io), 34 P4.5/PM_UCA1RXD/PM_UCA1SOMI (io), 35 P4.6/PM_NONE (io), 36 P4.7/PM_NONE (io), 37 P5.7/TB0.1 (io), 38 DVSS3 (power) "Digital ground supply", 39 P5.2/XT2IN (io), 40 P5.3/XT2OUT (io), 41 TEST/SBWTCK (in), 42 PJ.0/TDO (io), 43 PJ.1/TDI/TCLK (io), 44 PJ.2/TMS (io), 45 PJ.3/TCK (io), 46 ~{RST}/NMI/SBWTDIO (io), 47 P6.1/CB1/A1 (io), 48 P6.2/CB2/A2 (io), 49 QFN PAD (power) "QFN package pad. Connection to VSS is recommended."

## MSP430F5418AIPN
designator U?
25 MHz Mixed Signal Microcontroller with 128 KB Flash, 16384 B SRAM and 67 GPIOs, -40 to 85 degC, 80-pin QFP (PN), Green (RoHS & no Sb/Br); Manufacturer: Texas Instruments; PartNumber: MSP430F5418AIPN; ADC: 12-bit SAR; ADC Channels: 16; Brown Out Reset: Yes; DMA: 3; Flash(KB): 128; Frequency(MHz): 25; GPIO: 67; Multiplier: 32x32; SRAM(B): 16384; SubFamily: 5 Series; USCI_A (UART/LIN/IrDA/SPI): 2; DatasheetVersion: SLAS655B; PackageReference: PN80; PackageDescription: 80-Pin Plastic Quad Flat Pack, Body 12 x 12 mm, Pitch 0.5 mm; Supplier 1: Digi-Key; Supplier Part Number 1: 296-29957-2-ND; Supplier 2: Digi-Key; Supplier Part Number 2: 296-29957-1-ND; Supplier 3: Digi-Key; Supplier Part Number 3: 296-29957-6-ND; Supplier 4: Farnell; Supplier Part Number 4: 2072131; Supplier 5: Newark; Supplier Part Number 5: 64T3691; Supplier 6: Mouser; Supplier Part Number 6: 595-MSP430F5342IRGZT; Eco-Plan: Green (RoHS & no Sb/Br); Real-Time Clock: Yes; SVS: Yes; Temp Sensor: Yes; Timers - 16-bit: 3; USCI_B (I2C & SPI): 2; Watchdog: Yes; Mounting Technology: Surface Mount; Code_JEDEC: MS-018; ComponentLink1Description: Manufacturer URL; ComponentLink1URL: http://www.ti.com/; ComponentLink2Description: Datasheet; ComponentLink2URL: http://www.ti.com/general/docs/lit/getliterature.tsp?genericPartNumber=MSP430F5418A&fileType=pdf; ComponentLink3Description: Package Specification; ComponentLink3URL: http://www.ti.com/lit/ml/mtqf010a/mtqf010a.pdf
footprint TI-PN80_N (QFP, 80-Leads, Body 12x12mm, Pitch 0.5mm, IPC Medium Density)
pins: 1 P6.4/A4 (io), 2 P6.5/A5 (io), 3 P6.6/A6 (io), 4 P6.7/A7 (io), 5 P7.4/A12 (io), 6 P7.5/A13 (io), 7 P7.6/A14 (io), 8 P7.7/A15 (io), 9 P5.0/A8/VREF+/VEREF+ (io), 10 P5.1/A9/VREF-/VEREF- (io), 11 AVCC (power) "Analog power supply", 12 AVSS (power) "Analog ground supply", 13 P7.0/XIN (io), 14 P7.1/XOUT (io), 15 DVSS1 (power) "Digital ground supply", 16 DVCC1 (power) "Digital power supply", 17 P1.0/TA0CLK/ACLK (io), 18 P1.1/TA0.0 (io), 19 P1.2/TA0.1 (io), 20 P1.3/TA0.2 (io), 21 P1.4/TA0.3 (io), 22 P1.5/TA0.4 (io), 23 P1.6/SMCLK (io), 24 P1.7 (io) "General-purpose digital I/O with port interrupt", 25 P2.0/TA1CLK/MCLK (io), 26 P2.1/TA1.0 (io), 27 P2.2/TA1.1 (io), 28 P2.3/TA1.2 (io), 29 P2.4/RTCCLK (io), 30 DVSS3 (power) "Digital ground supply", 31 DVCC3 (power) "Digital power supply", 32 P2.5 (io) "General-purpose digital I/O with port interrupt", 33 P2.6/ACLK (io), 34 P2.7/ADC12CLK/DMAE0 (io), 35 P3.0/UCB0STE/UCA0CLK (io), 36 P3.1/UCB0SIMO/UCB0SDA (io), 37 P3.2/UCB0SOMI/UCB0SCL (io), 38 P3.3/UCB0CLK/UCA0STE (io), 39 P3.4/UCA0TXD/UCA0SIMO (io), 40 P3.5/UCA0RXD/UCA0SOMI (io), 41 P3.6/UCB1STE/UCA1CLK (io), 42 P3.7/UCB1SIMO/UCB1SDA (io), 43 P4.0/TB0.0 (io), 44 P4.1/TB0.1 (io), 45 P4.2/TB0.2 (io), 46 P4.3/TB0.3 (io), 47 P4.4/TB0.4 (io), 48 P4.5/TB0.5 (io), 49 VCORE "Regulated core power supply output", 50 DVSS2 (power) "Digital ground supply", 51 DVCC2 (power) "Digital power supply", 52 P4.6/TB0.6 (io), 53 P4.7/TB0CLK/SMCLK (io), 54 P5.4/UCB1SOMI/UCB1SCL (io), 55 P5.5/UCB1CLK/UCA1STE (io), 56 P5.6/UCA1TXD/UCA1SIMO (io), 57 P5.7/UCA1RXD/UCA1SOMI (io), 58 P7.2/TB0OUTH/SVMOUT (io), 59 P7.3/TA1.2 (io), 60 P8.0/TA0.0 (io), 61 P8.1/TA0.1 (io), 62 P8.2/TA0.2 (io), 63 P8.3/TA0.3 (io), 64 P8.4/TA0.4 (io), 65 P8.5/TA1.0 (io), 66 P8.6/TA1.1 (io), 67 DVCC4 (power) "Digital power supply", 68 DVSS4 (power) "Digital ground supply", 69 P5.2/XT2IN (io), 70 P5.3/XT2OUT (io), 71 TEST/SBWTCK (in), 72 PJ.0/TDO (io), 73 PJ.1/TDI/TCLK (io), 74 PJ.2/TMS (io), 75 PJ.3/TCK (io), 76 ~{RST}/NMI/SBWTDIO (io), 77 P6.0/A0 (io), 78 P6.1/A1 (io), 79 P6.2/A2 (io), 80 P6.3/A3 (io)

## MSP430F5418AIPNR
designator U?
25 MHz Mixed Signal Microcontroller with 128 KB Flash, 16384 B SRAM and 67 GPIOs, -40 to 85 degC, 80-pin QFP (PN), Green (RoHS & no Sb/Br); Manufacturer: Texas Instruments; PartNumber: MSP430F5418AIPNR; ADC: 12-bit SAR; ADC Channels: 16; Brown Out Reset: Yes; DMA: 3; Flash(KB): 128; Frequency(MHz): 25; GPIO: 67; Multiplier: 32x32; SRAM(B): 16384; SubFamily: 5 Series; USCI_A (UART/LIN/IrDA/SPI): 2; DatasheetVersion: SLAS655B; PackageReference: PN80; PackageDescription: 80-Pin Plastic Quad Flat Pack, Body 12 x 12 mm, Pitch 0.5 mm; Supplier 1: Digi-Key; Supplier Part Number 1: 296-33438-5-ND; Supplier 2: Farnell; Supplier Part Number 2: 2081250; Supplier 3: Newark; Supplier Part Number 3: 68R9290; Supplier 4: Mouser; Supplier Part Number 4: 595-MSP430F5418AIPN; Eco-Plan: Green (RoHS & no Sb/Br); Real-Time Clock: Yes; SVS: Yes; Temp Sensor: Yes; Timers - 16-bit: 3; USCI_B (I2C & SPI): 2; Watchdog: Yes; Mounting Technology: Surface Mount; Code_JEDEC: MS-018; ComponentLink1Description: Manufacturer URL; ComponentLink1URL: http://www.ti.com/; ComponentLink2Description: Datasheet; ComponentLink2URL: http://www.ti.com/general/docs/lit/getliterature.tsp?genericPartNumber=MSP430F5418A&fileType=pdf; ComponentLink3Description: Package Specification; ComponentLink3URL: http://www.ti.com/lit/ml/mtqf010a/mtqf010a.pdf
footprint TI-PN80_N (QFP, 80-Leads, Body 12x12mm, Pitch 0.5mm, IPC Medium Density)
pins: 1 P6.4/A4 (io), 2 P6.5/A5 (io), 3 P6.6/A6 (io), 4 P6.7/A7 (io), 5 P7.4/A12 (io), 6 P7.5/A13 (io), 7 P7.6/A14 (io), 8 P7.7/A15 (io), 9 P5.0/A8/VREF+/VEREF+ (io), 10 P5.1/A9/VREF-/VEREF- (io), 11 AVCC (power) "Analog power supply", 12 AVSS (power) "Analog ground supply", 13 P7.0/XIN (io), 14 P7.1/XOUT (io), 15 DVSS1 (power) "Digital ground supply", 16 DVCC1 (power) "Digital power supply", 17 P1.0/TA0CLK/ACLK (io), 18 P1.1/TA0.0 (io), 19 P1.2/TA0.1 (io), 20 P1.3/TA0.2 (io), 21 P1.4/TA0.3 (io), 22 P1.5/TA0.4 (io), 23 P1.6/SMCLK (io), 24 P1.7 (io) "General-purpose digital I/O with port interrupt", 25 P2.0/TA1CLK/MCLK (io), 26 P2.1/TA1.0 (io), 27 P2.2/TA1.1 (io), 28 P2.3/TA1.2 (io), 29 P2.4/RTCCLK (io), 30 DVSS3 (power) "Digital ground supply", 31 DVCC3 (power) "Digital power supply", 32 P2.5 (io) "General-purpose digital I/O with port interrupt", 33 P2.6/ACLK (io), 34 P2.7/ADC12CLK/DMAE0 (io), 35 P3.0/UCB0STE/UCA0CLK (io), 36 P3.1/UCB0SIMO/UCB0SDA (io), 37 P3.2/UCB0SOMI/UCB0SCL (io), 38 P3.3/UCB0CLK/UCA0STE (io), 39 P3.4/UCA0TXD/UCA0SIMO (io), 40 P3.5/UCA0RXD/UCA0SOMI (io), 41 P3.6/UCB1STE/UCA1CLK (io), 42 P3.7/UCB1SIMO/UCB1SDA (io), 43 P4.0/TB0.0 (io), 44 P4.1/TB0.1 (io), 45 P4.2/TB0.2 (io), 46 P4.3/TB0.3 (io), 47 P4.4/TB0.4 (io), 48 P4.5/TB0.5 (io), 49 VCORE "Regulated core power supply output", 50 DVSS2 (power) "Digital ground supply", 51 DVCC2 (power) "Digital power supply", 52 P4.6/TB0.6 (io), 53 P4.7/TB0CLK/SMCLK (io), 54 P5.4/UCB1SOMI/UCB1SCL (io), 55 P5.5/UCB1CLK/UCA1STE (io), 56 P5.6/UCA1TXD/UCA1SIMO (io), 57 P5.7/UCA1RXD/UCA1SOMI (io), 58 P7.2/TB0OUTH/SVMOUT (io), 59 P7.3/TA1.2 (io), 60 P8.0/TA0.0 (io), 61 P8.1/TA0.1 (io), 62 P8.2/TA0.2 (io), 63 P8.3/TA0.3 (io), 64 P8.4/TA0.4 (io), 65 P8.5/TA1.0 (io), 66 P8.6/TA1.1 (io), 67 DVCC4 (power) "Digital power supply", 68 DVSS4 (power) "Digital ground supply", 69 P5.2/XT2IN (io), 70 P5.3/XT2OUT (io), 71 TEST/SBWTCK (in), 72 PJ.0/TDO (io), 73 PJ.1/TDI/TCLK (io), 74 PJ.2/TMS (io), 75 PJ.3/TCK (io), 76 ~{RST}/NMI/SBWTDIO (io), 77 P6.0/A0 (io), 78 P6.1/A1 (io), 79 P6.2/A2 (io), 80 P6.3/A3 (io)

## MSP430F5419AIPZ
designator U?
25 MHz Mixed Signal Microcontroller with 128 KB Flash, 16384 B SRAM and 87 GPIOs, -40 to 85 degC, 100-pin QFP (PZ), Green (RoHS & no Sb/Br); Manufacturer: Texas Instruments; PartNumber: MSP430F5419AIPZ; ADC: 12-bit SAR; ADC Channels: 16; Brown Out Reset: Yes; DMA: 3; Flash(KB): 128; Frequency(MHz): 25; GPIO: 87; Multiplier: 32x32; SRAM(B): 16384; SubFamily: 5 Series; USCI_A (UART/LIN/IrDA/SPI): 4; DatasheetVersion: SLAS655B; PackageVersion: 4040149/B; PackageReference: PZ100; PackageDescription: 100-Pin Plastic Flat Pack, Body 14 x 14 mm, Pitch 0.5 mm; Supplier 1: Digi-Key; Supplier Part Number 1: MSP430F5418AIPNR-ND; Supplier 2: Newark; Supplier Part Number 2: 68R9291; Supplier 3: Mouser; Supplier Part Number 3: 595-MSP430F5418AIPNR; Eco-Plan: Green (RoHS & no Sb/Br); Real-Time Clock: Yes; SVS: Yes; Temp Sensor: Yes; Timers - 16-bit: 3; USCI_B (I2C & SPI): 4; Watchdog: Yes; Mounting Technology: Surface Mount; Code_JEDEC: MS-026; ComponentLink1Description: Manufacturer URL; ComponentLink1URL: http://www.ti.com/; ComponentLink2Description: Datasheet; ComponentLink2URL: http://www.ti.com/general/docs/lit/getliterature.tsp?genericPartNumber=MSP430F5419A&fileType=pdf; ComponentLink3Description: Package Specification; ComponentLink3URL: http://www.ti.com/lit/ml/mtqf013a/mtqf013a.pdf
footprint TI-PZ100_N (QFP, 100-Leads, Body 14x14mm, Pitch 0.5mm, IPC Medium Density)
pins: 1 P6.4/A4 (io), 2 P6.5/A5 (io), 3 P6.6/A6 (io), 4 P6.7/A7 (io), 5 P7.4/A12 (io), 6 P7.5/A13 (io), 7 P7.6/A14 (io), 8 P7.7/A15 (io), 9 P5.0/A8/VREF+/VEREF+ (io), 10 P5.1/A9/VREF-/VEREF- (io), 11 AVCC (power) "Analog power supply", 12 AVSS (power) "Analog ground supply", 13 P7.0/XIN (io), 14 P7.1/XOUT (io), 15 DVSS1 (power) "Digital ground supply", 16 DVCC1 (power) "Digital power supply", 17 P1.0/TA0CLK/ACLK (io), 18 P1.1/TA0.0 (io), 19 P1.2/TA0.1 (io), 20 P1.3/TA0.2 (io), 21 P1.4/TA0.3 (io), 22 P1.5/TA0.4 (io), 23 P1.6/SMCLK (io), 24 P1.7 (io) "General-purpose digital I/O with port interrupt", 25 P2.0/TA1CLK/MCLK (io), 26 P2.1/TA1.0 (io), 27 P2.2/TA1.1 (io), 28 P2.3/TA1.2 (io), 29 P2.4/RTCCLK (io), 30 P2.5 (io) "General-purpose digital I/O with port interrupt", 31 P2.6/ACLK (io), 32 P2.7/ADC12CLK/DMAE0 (io), 33 P3.0/UCB0STE/UCA0CLK (io), 34 P3.1/UCB0SIMO/UCB0SDA (io), 35 P3.2/UCB0SOMI/UCB0SCL (io), 36 P3.3/UCB0CLK/UCA0STE (io), 37 DVSS3 (power) "Digital ground supply", 38 DVCC3 (power) "Digital power supply", 39 P3.4/UCA0TXD/UCA0SIMO (io), 40 P3.5/UCA0RXD/UCA0SOMI (io), 41 P3.6/UCB1STE/UCA1CLK (io), 42 P3.7/UCB1SIMO/UCB1SDA (io), 43 P4.0/TB0.0 (io), 44 P4.1/TB0.1 (io), 45 P4.2/TB0.2 (io), 46 P4.3/TB0.3 (io), 47 P4.4/TB0.4 (io), 48 P4.5/TB0.5 (io), 49 P4.6/TB0.6 (io), 50 P4.7/TB0CLK/SMCLK (io), 51 P5.4/UCB1SOMI/UCB1SCL (io), 52 P5.5/UCB1CLK/UCA1STE (io), 53 P5.6/UCA1TXD/UCA1SIMO (io), 54 P5.7/UCA1RXD/UCA1SOMI (io), 55 P7.2/TB0OUTH/SVMOUT (io), 56 P7.3/TA1.2 (io), 57 P8.0/TA0.0 (io), 58 P8.1/TA0.1 (io), 59 P8.2/TA0.2 (io), 60 P8.3/TA0.3 (io), 61 P8.4/TA0.4 (io), 62 VCORE "Regulated core power supply output (internal usage only, no external current loading)", 63 DVSS2 (power) "Digital ground supply", 64 DVCC2 (power) "Digital power supply", 65 P8.5/TA1.0 (io), 66 P8.6/TA1.1 (io), 67 P8.7 (io) "General-purpose digital I/O", 68 P9.0/UCB2STE/UCA2CLK (io), 69 P9.1/UCB2SIMO/UCB2SDA (io), 70 P9.2/UCB2SOMI/UCB2SCL (io), 71 P9.3/UCB2CLK/UCA2STE (io), 72 P9.4/UCA2TXD/UCA2SIMO (io), 73 P9.5/UCA2RXDUCA2SOMI (io), 74 P9.6 (io) "General-purpose digital I/O", 75 P9.7 (io) "General-purpose digital I/O", 76 P10.0/UCB3STE/UCA3CLK (io), 77 P10.1/UCB3SIMO/UCB3SDA (io), 78 P10.2/UCB3SOMI/UCB3SCL (io), 79 P10.3/UCB3CLK/UCA3STE (io), 80 P10.4/UCA3TXD/UCA3SIMO (io), 81 P10.5/UCA3RXDUCA3SOMI (io), 82 P10.6 (io) "General-purpose digital I/O", 83 P10.7 (io) "General-purpose digital I/O", 84 P11.0/ACLK (io), 85 P11.1/MCLK (io), 86 P11.2/SMCLK (io), 87 DVCC4 (power) "Digital power supply", 88 DVSS4 (power) "Digital ground supply", 89 P5.2/XT2IN (io), 90 P5.3/XT2OUT (io), 91 TEST/SBWTCK (in), 92 PJ.0/TDO (io), 93 PJ.1/TDI/TCLK (io), 94 PJ.2/TMS (io), 95 PJ.3/TCK (io), 96 ~{RST}/NMI/SBWTDIO (io), 97 P6.0/A0 (io), 98 P6.1/A1 (io), 99 P6.2/A2 (io), 100 P6.3/A3 (io)

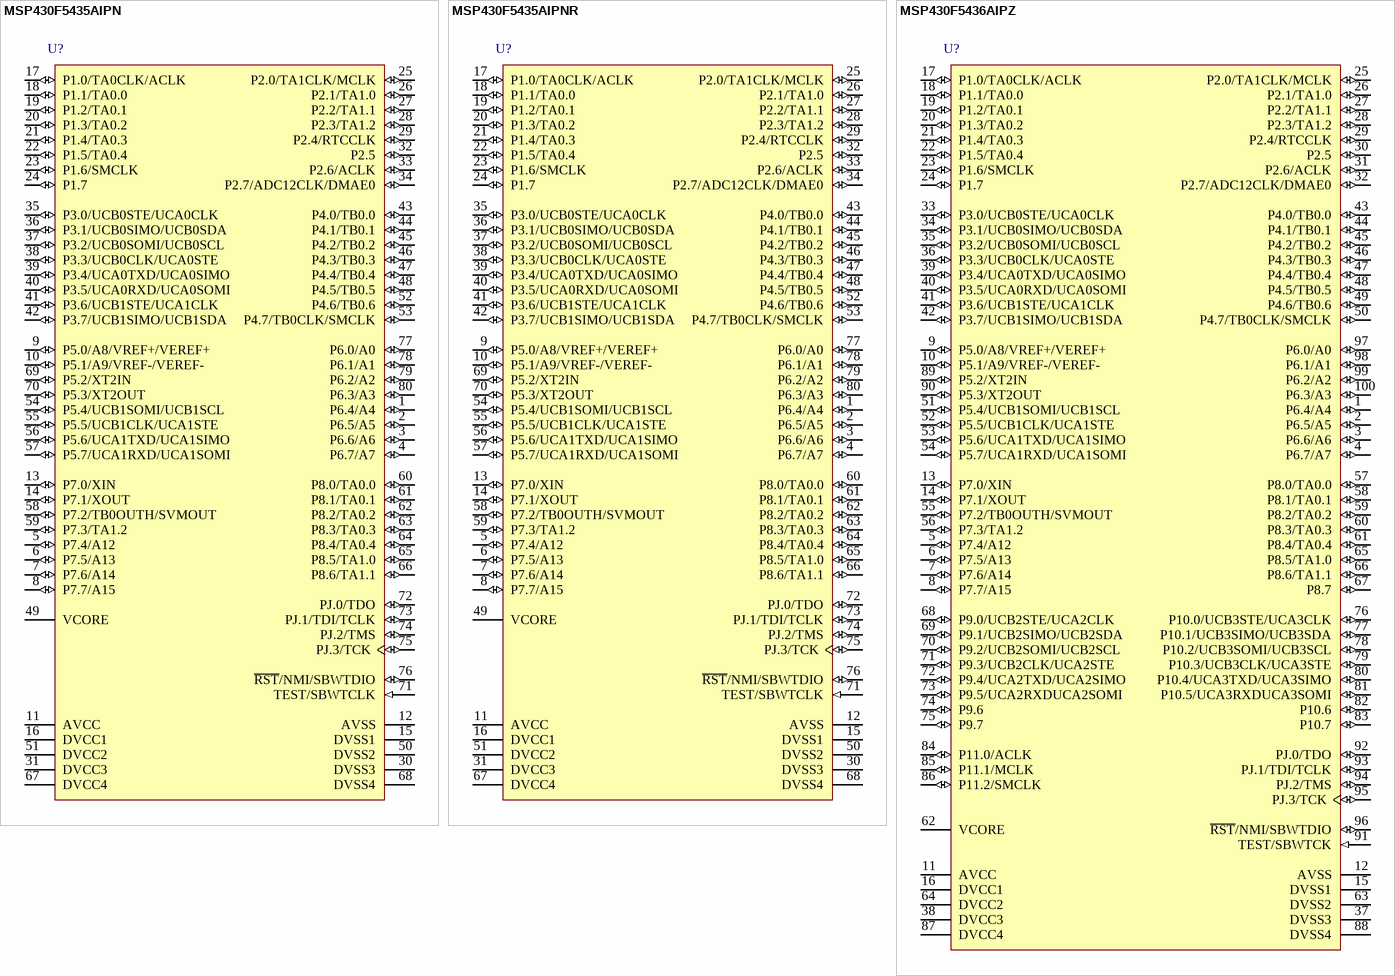
[diagram p109: symbols MSP430F5435AIPN to MSP430F5436AIPZ]

## MSP430F5435AIPN
designator U?
25 MHz Mixed Signal Microcontroller with 192 KB Flash, 16384 B SRAM and 67 GPIOs, -40 to 85 degC, 80-pin QFP (PN), Green (RoHS & no Sb/Br); Manufacturer: Texas Instruments; PartNumber: MSP430F5435AIPN; ADC: 12-bit SAR; ADC Channels: 16; Brown Out Reset: Yes; DMA: 3; Flash(KB): 192; Frequency(MHz): 25; GPIO: 67; Multiplier: 32x32; SRAM(B): 16384; SubFamily: 5 Series; USCI_A (UART/LIN/IrDA/SPI): 2; DatasheetVersion: SLAS655B; PackageReference: PN80; PackageDescription: 80-Pin Plastic Quad Flat Pack, Body 12 x 12 mm, Pitch 0.5 mm; Supplier 1: Digi-Key; Supplier Part Number 1: 296-33439-5-ND; Supplier 2: Farnell; Supplier Part Number 2: 2113747; Supplier 3: Newark; Supplier Part Number 3: 96T3871; Supplier 4: Newark; Supplier Part Number 4: 68R9292; Supplier 5: Mouser; Supplier Part Number 5: 595-MSP430F5419AIPZ; Eco-Plan: Green (RoHS & no Sb/Br); Real-Time Clock: Yes; SVS: Yes; Temp Sensor: Yes; Timers - 16-bit: 3; USCI_B (I2C & SPI): 2; Watchdog: Yes; Mounting Technology: Surface Mount; Code_JEDEC: MS-018; ComponentLink1Description: Manufacturer URL; ComponentLink1URL: http://www.ti.com/; ComponentLink2Description: Datasheet; ComponentLink2URL: http://www.ti.com/general/docs/lit/getliterature.tsp?genericPartNumber=MSP430F5435A&fileType=pdf; ComponentLink3Description: Package Specification; ComponentLink3URL: http://www.ti.com/lit/ml/mtqf010a/mtqf010a.pdf
footprint TI-PN80_N (QFP, 80-Leads, Body 12x12mm, Pitch 0.5mm, IPC Medium Density)
pins: 1 P6.4/A4 (io), 2 P6.5/A5 (io), 3 P6.6/A6 (io), 4 P6.7/A7 (io), 5 P7.4/A12 (io), 6 P7.5/A13 (io), 7 P7.6/A14 (io), 8 P7.7/A15 (io), 9 P5.0/A8/VREF+/VEREF+ (io), 10 P5.1/A9/VREF-/VEREF- (io), 11 AVCC (power) "Analog power supply", 12 AVSS (power) "Analog ground supply", 13 P7.0/XIN (io), 14 P7.1/XOUT (io), 15 DVSS1 (power) "Digital ground supply", 16 DVCC1 (power) "Digital power supply", 17 P1.0/TA0CLK/ACLK (io), 18 P1.1/TA0.0 (io), 19 P1.2/TA0.1 (io), 20 P1.3/TA0.2 (io), 21 P1.4/TA0.3 (io), 22 P1.5/TA0.4 (io), 23 P1.6/SMCLK (io), 24 P1.7 (io) "General-purpose digital I/O with port interrupt", 25 P2.0/TA1CLK/MCLK (io), 26 P2.1/TA1.0 (io), 27 P2.2/TA1.1 (io), 28 P2.3/TA1.2 (io), 29 P2.4/RTCCLK (io), 30 DVSS3 (power) "Digital ground supply", 31 DVCC3 (power) "Digital power supply", 32 P2.5 (io) "General-purpose digital I/O with port interrupt", 33 P2.6/ACLK (io), 34 P2.7/ADC12CLK/DMAE0 (io), 35 P3.0/UCB0STE/UCA0CLK (io), 36 P3.1/UCB0SIMO/UCB0SDA (io), 37 P3.2/UCB0SOMI/UCB0SCL (io), 38 P3.3/UCB0CLK/UCA0STE (io), 39 P3.4/UCA0TXD/UCA0SIMO (io), 40 P3.5/UCA0RXD/UCA0SOMI (io), 41 P3.6/UCB1STE/UCA1CLK (io), 42 P3.7/UCB1SIMO/UCB1SDA (io), 43 P4.0/TB0.0 (io), 44 P4.1/TB0.1 (io), 45 P4.2/TB0.2 (io), 46 P4.3/TB0.3 (io), 47 P4.4/TB0.4 (io), 48 P4.5/TB0.5 (io), 49 VCORE "Regulated core power supply output (internal usage only, no external current loading)", 50 DVSS2 (power) "Digital ground supply", 51 DVCC2 (power) "Digital power supply", 52 P4.6/TB0.6 (io), 53 P4.7/TB0CLK/SMCLK (io), 54 P5.4/UCB1SOMI/UCB1SCL (io), 55 P5.5/UCB1CLK/UCA1STE (io), 56 P5.6/UCA1TXD/UCA1SIMO (io), 57 P5.7/UCA1RXD/UCA1SOMI (io), 58 P7.2/TB0OUTH/SVMOUT (io), 59 P7.3/TA1.2 (io), 60 P8.0/TA0.0 (io), 61 P8.1/TA0.1 (io), 62 P8.2/TA0.2 (io), 63 P8.3/TA0.3 (io), 64 P8.4/TA0.4 (io), 65 P8.5/TA1.0 (io), 66 P8.6/TA1.1 (io), 67 DVCC4 (power) "Digital power supply", 68 DVSS4 (power) "Digital ground supply", 69 P5.2/XT2IN (io), 70 P5.3/XT2OUT (io), 71 TEST/SBWTCLK (in), 72 PJ.0/TDO (io), 73 PJ.1/TDI/TCLK (io), 74 PJ.2/TMS (io), 75 PJ.3/TCK (io), 76 ~{RST}/NMI/SBWTDIO (io), 77 P6.0/A0 (io), 78 P6.1/A1 (io), 79 P6.2/A2 (io), 80 P6.3/A3 (io)

## MSP430F5435AIPNR
designator U?
25 MHz Mixed Signal Microcontroller with 192 KB Flash, 16384 B SRAM and 67 GPIOs, -40 to 85 degC, 80-pin QFP (PN), Green (RoHS & no Sb/Br); Manufacturer: Texas Instruments; PartNumber: MSP430F5435AIPNR; ADC: 12-bit SAR; ADC Channels: 16; Brown Out Reset: Yes; DMA: 3; Flash(KB): 192; Frequency(MHz): 25; GPIO: 67; Multiplier: 32x32; SRAM(B): 16384; SubFamily: 5 Series; USCI_A (UART/LIN/IrDA/SPI): 2; DatasheetVersion: SLAS655B; PackageReference: PN80; PackageDescription: 80-Pin Plastic Quad Flat Pack, Body 12 x 12 mm, Pitch 0.5 mm; Supplier 1: Digi-Key; Supplier Part Number 1: MSP430F5435AIPN-ND; Supplier 2: Newark; Supplier Part Number 2: 68R9296; Supplier 3: Mouser; Supplier Part Number 3: 595-MSP430F5435AIPN; Eco-Plan: Green (RoHS & no Sb/Br); Real-Time Clock: Yes; SVS: Yes; Temp Sensor: Yes; Timers - 16-bit: 3; USCI_B (I2C & SPI): 2; Watchdog: Yes; Mounting Technology: Surface Mount; Code_JEDEC: MS-018; ComponentLink1Description: Manufacturer URL; ComponentLink1URL: http://www.ti.com/; ComponentLink2Description: Datasheet; ComponentLink2URL: http://www.ti.com/general/docs/lit/getliterature.tsp?genericPartNumber=MSP430F5435A&fileType=pdf; ComponentLink3Description: Package Specification; ComponentLink3URL: http://www.ti.com/lit/ml/mtqf010a/mtqf010a.pdf
footprint TI-PN80_N (QFP, 80-Leads, Body 12x12mm, Pitch 0.5mm, IPC Medium Density)
pins: 1 P6.4/A4 (io), 2 P6.5/A5 (io), 3 P6.6/A6 (io), 4 P6.7/A7 (io), 5 P7.4/A12 (io), 6 P7.5/A13 (io), 7 P7.6/A14 (io), 8 P7.7/A15 (io), 9 P5.0/A8/VREF+/VEREF+ (io), 10 P5.1/A9/VREF-/VEREF- (io), 11 AVCC (power) "Analog power supply", 12 AVSS (power) "Analog ground supply", 13 P7.0/XIN (io), 14 P7.1/XOUT (io), 15 DVSS1 (power) "Digital ground supply", 16 DVCC1 (power) "Digital power supply", 17 P1.0/TA0CLK/ACLK (io), 18 P1.1/TA0.0 (io), 19 P1.2/TA0.1 (io), 20 P1.3/TA0.2 (io), 21 P1.4/TA0.3 (io), 22 P1.5/TA0.4 (io), 23 P1.6/SMCLK (io), 24 P1.7 (io) "General-purpose digital I/O with port interrupt", 25 P2.0/TA1CLK/MCLK (io), 26 P2.1/TA1.0 (io), 27 P2.2/TA1.1 (io), 28 P2.3/TA1.2 (io), 29 P2.4/RTCCLK (io), 30 DVSS3 (power) "Digital ground supply", 31 DVCC3 (power) "Digital power supply", 32 P2.5 (io) "General-purpose digital I/O with port interrupt", 33 P2.6/ACLK (io), 34 P2.7/ADC12CLK/DMAE0 (io), 35 P3.0/UCB0STE/UCA0CLK (io), 36 P3.1/UCB0SIMO/UCB0SDA (io), 37 P3.2/UCB0SOMI/UCB0SCL (io), 38 P3.3/UCB0CLK/UCA0STE (io), 39 P3.4/UCA0TXD/UCA0SIMO (io), 40 P3.5/UCA0RXD/UCA0SOMI (io), 41 P3.6/UCB1STE/UCA1CLK (io), 42 P3.7/UCB1SIMO/UCB1SDA (io), 43 P4.0/TB0.0 (io), 44 P4.1/TB0.1 (io), 45 P4.2/TB0.2 (io), 46 P4.3/TB0.3 (io), 47 P4.4/TB0.4 (io), 48 P4.5/TB0.5 (io), 49 VCORE "Regulated core power supply output (internal usage only, no external current loading)", 50 DVSS2 (power) "Digital ground supply", 51 DVCC2 (power) "Digital power supply", 52 P4.6/TB0.6 (io), 53 P4.7/TB0CLK/SMCLK (io), 54 P5.4/UCB1SOMI/UCB1SCL (io), 55 P5.5/UCB1CLK/UCA1STE (io), 56 P5.6/UCA1TXD/UCA1SIMO (io), 57 P5.7/UCA1RXD/UCA1SOMI (io), 58 P7.2/TB0OUTH/SVMOUT (io), 59 P7.3/TA1.2 (io), 60 P8.0/TA0.0 (io), 61 P8.1/TA0.1 (io), 62 P8.2/TA0.2 (io), 63 P8.3/TA0.3 (io), 64 P8.4/TA0.4 (io), 65 P8.5/TA1.0 (io), 66 P8.6/TA1.1 (io), 67 DVCC4 (power) "Digital power supply", 68 DVSS4 (power) "Digital ground supply", 69 P5.2/XT2IN (io), 70 P5.3/XT2OUT (io), 71 TEST/SBWTCLK (in), 72 PJ.0/TDO (io), 73 PJ.1/TDI/TCLK (io), 74 PJ.2/TMS (io), 75 PJ.3/TCK (io), 76 ~{RST}/NMI/SBWTDIO (io), 77 P6.0/A0 (io), 78 P6.1/A1 (io), 79 P6.2/A2 (io), 80 P6.3/A3 (io)